# EAGLE library part BTM7752G (library MRDT-2015-General)
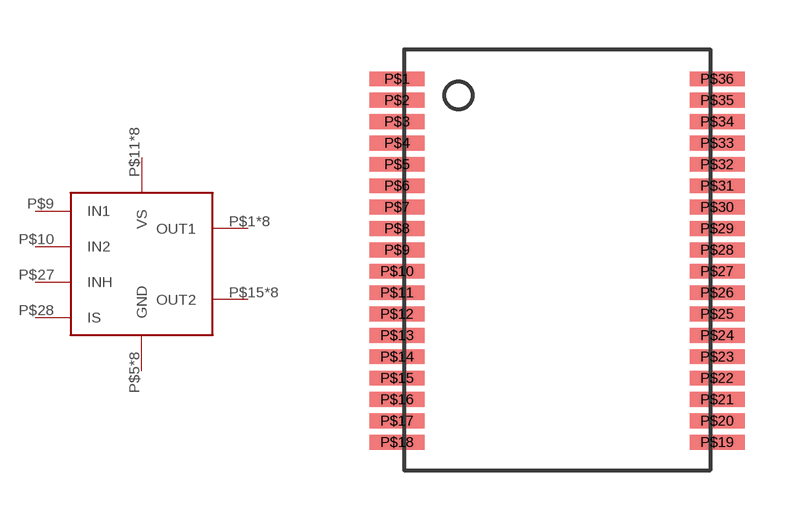
[diagram p5: symbol with the pads of BTM7752G; footprint BTM7752G]

Designator prefix -

## BTM7752G  [BTM7752G]
P$1  OUT1
P$2  OUT1
P$3  OUT1
P$4  OUT1
P$5  GND
P$6  GND
P$7  GND
P$8  GND
P$9  IN1
P$10  IN2
P$11  VS
P$12  VS
P$13  VS
P$14  VS
P$15  OUT2
P$16  OUT2
P$17  OUT2
P$18  OUT2
P$19  OUT2
P$20  OUT2
P$21  OUT2
P$22  OUT2
P$23  GND
P$24  GND
P$25  GND
P$26  GND
P$27  INH
P$28  IS
P$29  VS
P$30  VS
P$31  VS
P$32  VS
P$33  OUT1
P$34  OUT1
P$35  OUT1
P$36  OUT1

## Footprint BTM7752G (pad centres in mm)
smd 1.67 x 0.45: P$1 -4.865,5.5; P$2 -4.865,4.85; P$3 -4.865,4.2; P$4 -4.865,3.55; P$5 -4.865,2.9; P$6 -4.865,2.25; P$7 -4.865,1.6; P$8 -4.865,0.95; P$9 -4.865,0.3; P$10 -4.865,-0.35; P$11 -4.865,-1; P$12 -4.865,-1.65; P$13 -4.865,-2.3; P$14 -4.865,-2.95; P$15 -4.865,-3.6; P$16 -4.865,-4.25; P$17 -4.865,-4.9; P$18 -4.865,-5.55; P$19 4.865,-5.55; P$20 4.865,-4.9; P$21 4.865,-4.25; P$22 4.865,-3.6; P$23 4.865,-2.95; P$24 4.865,-2.3; P$25 4.865,-1.65; P$26 4.865,-1; P$27 4.865,-0.35; P$28 4.865,0.3; P$29 4.865,0.95; P$30 4.865,1.6; P$31 4.865,2.25; P$32 4.865,2.9; P$33 4.865,3.55; P$34 4.865,4.2; P$35 4.865,4.85; P$36 4.865,5.5